# Altium schematic symbol library 1755516.SchLib: 1 symbol
Pins are listed as number, name and electrical type; pins without a type are passive.

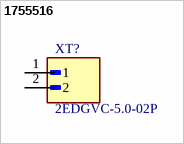
[diagram p0: symbol 1755516]

## 1755516
designator XT?, comment 2EDGVC-5.0-02P
Male connector on board; MP: 1755516; Package: None; Price: None; Value: *; Availability: Unavailable
footprint PHOENIX_1755516
pins: 1, 2